# Altium footprint library PCB - CAPACITOR - FILM - CAP FILM 1210.PCBLIB: 1 footprints
Each footprint in its own frame and in the unit in brackets; x right, y up, seen from the top. Pads: shape width x height; smd on the part's side, far side on the other; paste and mask are expansions set on the pad; w line width, h text height; cw(c..) or ccw(c..) is an arc to the next point about the centre after c.
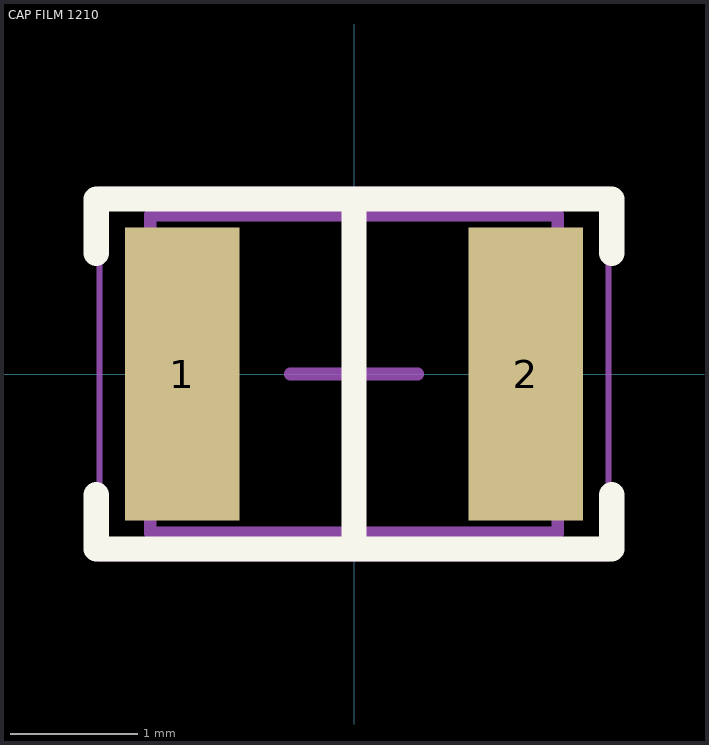
[diagram p0: the footprint, top view; thin cyan lines are the x and y axes]

## CAP FILM 1210 [mm] "G2, Film Capacitor PPS, 2-Leads, Body 3.20x2.50mm, IPC Medium Density"
height 1.4
pads (2):
  rect 0.9x2.3 smd: 1(-1.35,0) 2(1.35,0)
Top Overlay:
  lines w0.2: -2.025,-0.95 -2.025,-1.375 2.025,-1.375 2.025,-0.95 ; -2.025,0.95 -2.025,1.375 2.025,1.375 2.025,0.95 ; 0,-1.375 0,1.375
Mechanical 13:
  lines w0.1: -1.6,-1.25 1.6,-1.25 1.6,1.25 -1.6,1.25 -1.6,-1.25
Mechanical 15:
  lines w0.05: -2,-1.45 2,-1.45 2,1.45 -2,1.45 -2,-1.45
  lines w0.1: -0.5,0 0.5,0 ; 0,-0.5 0,0.5
3D body "CAP FILM - 1210-1.6mm.step": height 1.6, standoff 0, extent -1.6,-1.25 1.6,1.25